# EAGLE library part LM358_DUAL_OP-AMP (library IotaWatt4.8)
LM358 Dual Op-Amp - SOIC8
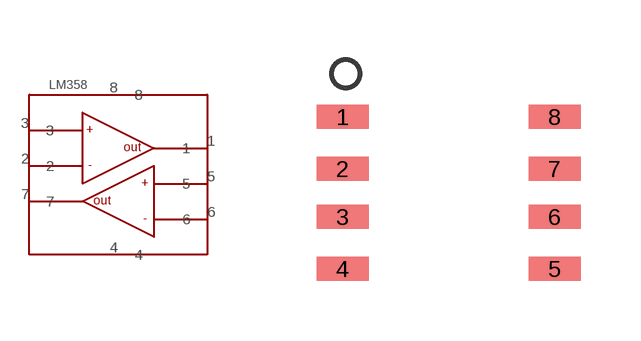
[diagram p0: symbol with the pads of SOIC_8; footprint SOIC_8]

Designator prefix -

## LM358_DUAL_OP-AMP  [SOIC_8]
1  1
2  2
3  3
4  4
5  5
6  6
7  7
8  8

## Footprint SOIC_8 (pad centres in mm)
SOIC_8 for PCF8523 RTC
smd 1.3 x 0.6: 1 -2.6,1.9; 2 -2.6,0.6; 3 -2.6,-0.6; 4 -2.6,-1.9; 5 2.7,-1.9; 6 2.7,-0.6; 7 2.7,0.6; 8 2.7,1.9